# Altium footprint library Filter.PcbLib: 1 footprints
Each footprint in its own frame and in the unit in brackets; x right, y up, seen from the top. Pads: shape width x height; smd on the part's side, far side on the other; paste and mask are expansions set on the pad; w line width, h text height; cw(c..) or ccw(c..) is an arc to the next point about the centre after c.
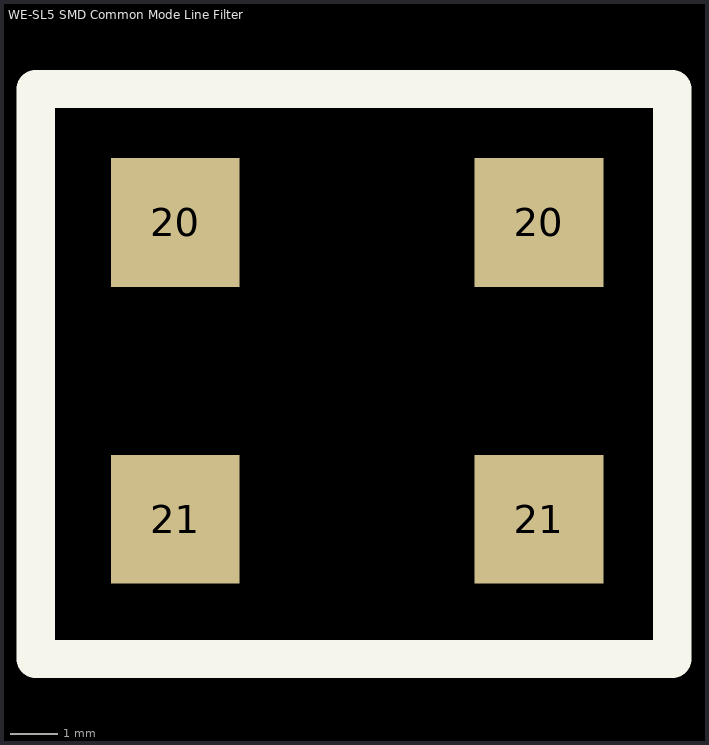
[diagram p0: the footprint, top view; thin cyan lines are the x and y axes]

## WE-SL5 SMD Common Mode Line Filter [mm]
pads (4):
  rect 2.7x2.7 smd mask+0.102: 20(1229.639,1256.436) 21(1229.639,1250.216) 21(1237.259,1250.216)
  rect 2.7x2.7 smd: 20(1237.259,1256.436)
Top Overlay:
  lines w0.8: 1226.718,1247.292 1240.053,1247.292 1240.053,1259.23 1226.718,1259.23 1226.718,1247.292
3D body "User Library-WURTH_744272471.STEP": height 5.7, standoff -0.3, extent 1228.449,1249.039 1238.449,1257.739